# EAGLE library part M950* (library SCX3)
4 Kbit, 2 Kbit and 1 Kbit serial SPI bus EEPROM with high-speed clock
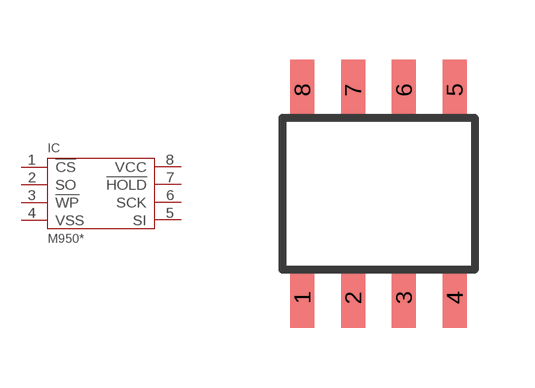
[diagram p14: symbol with the pads of SO8; footprint SO8]

Designator prefix IC

## M95010, M95020, M95040  [SO8]
1  !CS
2  SO
3  !WP
4  VSS  pwr
5  SI
6  SCK
7  !HOLD
8  VCC  pwr

## Footprint SO8 (pad centres in mm)
SMALL OUTLINE INTEGRATED CIRCUIT SOP-8L Source: http://www.diodes.com/datasheets/ds31262.pdf
smd 0.6 x 1.5: 1 -1.905,-2.6; 2 -0.635,-2.6; 3 0.635,-2.6; 4 1.905,-2.6; 5 1.905,2.6; 6 0.635,2.6; 7 -0.635,2.6; 8 -1.905,2.6